# Altium footprint library SparkFun-Connectors.PCBLIB: 386 footprints (part 14 of 25)
Each footprint in its own frame and in the unit in brackets; x right, y up, seen from the top. Pads: shape width x height; smd on the part's side, far side on the other; paste and mask are expansions set on the pad; w line width, h text height; cw(c..) or ccw(c..) is an arc to the next point about the centre after c.
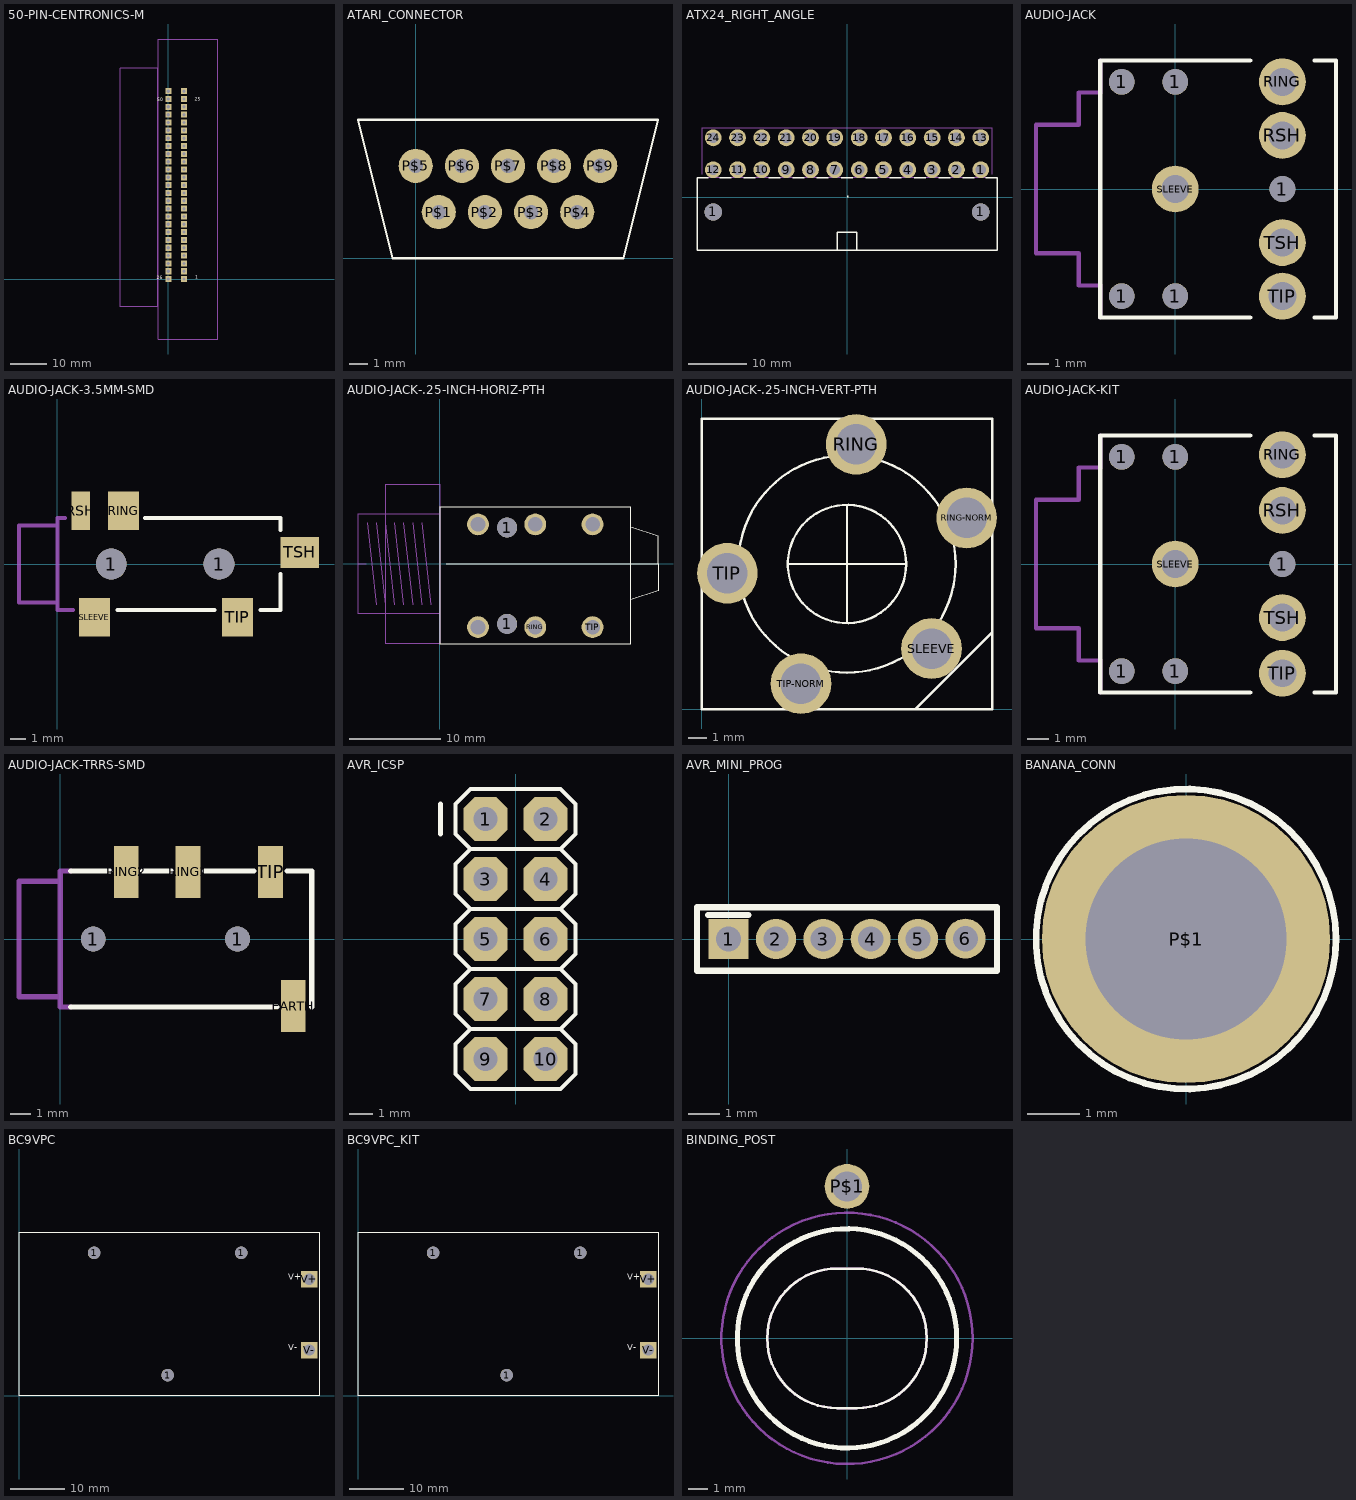
[diagram p13: the footprints below, top view; thin cyan lines are the x and y axes]

## 50-PIN-CENTRONICS-M [mil]
pads (50):
  rect 66x66 hole 35.43: P$1(170,0) P$2(170,85) P$3(170,170) P$4(170,255) P$5(170,340) P$6(170,425) P$7(170,510) P$8(170,595) P$9(170,680) P$10(170,765) P$11(170,850) P$12(170,935) P$13(170,1020) P$14(170,1105) P$15(170,1190) P$16(170,1275) P$17(170,1360) P$18(170,1445) P$19(170,1530) P$20(170,1615) P$21(170,1700) P$22(170,1785) P$23(170,1870) P$24(170,1955) P$25(170,2040) P$26(0,0) P$27(0,85) P$28(0,170) P$29(0,255) P$30(0,340) P$31(0,425) P$32(0,510) P$33(0,595) P$34(0,680) P$35(0,765) P$36(0,850) P$37(0,935) P$38(0,1020) P$39(0,1105) P$40(0,1190) P$41(0,1275) P$42(0,1360) P$43(0,1445) P$44(0,1530) P$45(0,1615) P$46(0,1700) P$47(0,1785) P$48(0,1870) P$49(0,1955) P$50(0,2040)
Top Overlay:
  text "1" at 292.87,-15 h62
  text "25" at 287.87,1920 h62
  text "26" at -127.87,-20 h62
  text "50" at -117.87,1930 h34
Mechanical 16:
  lines w5: -519.69,-300 -113.39,-300 -113.39,2286.61 -519.69,2286.61 -519.69,-300 ; -111.34,-650 -111.34,2605.91 534.33,2605.91 534.33,-650 -111.34,-650

## ATARI_CONNECTOR [mil]
pads (9):
  round 74 hole 31.5: P$1(50,100) P$2(150,100) P$3(250,100) P$4(350,100) P$5(0,200) P$6(100,200) P$7(200,200) P$8(300,200) P$9(400,200)
Top Overlay:
  lines w5: -125,300 525,300 450,0 -50,0 -125,300

## ATX24_RIGHT_ANGLE [mm]
pads (26):
  round 3 hole 3: 1(-23.1,-2.54) 1(23.1,-2.54)
  round 2.9 hole 1.8: 1(23.1,4.76) 2(18.9,4.76) 3(14.7,4.76) 4(10.5,4.76) 5(6.3,4.76) 6(2.1,4.76) 7(-2.1,4.76) 8(-6.3,4.76) 9(-10.5,4.76) 10(-14.7,4.76) 11(-18.9,4.76) 12(-23.1,4.76) 13(23.1,10.26) 14(18.9,10.26) 15(14.7,10.26) 16(10.5,10.26) 17(6.3,10.26) 18(2.1,10.26) 19(-2.1,10.26) 20(-6.3,10.26) 21(-10.5,10.26) 22(-14.7,10.26) 23(-18.9,10.26) 24(-23.1,10.26)
Top Overlay:
  region: 0,0 0.254,0 0.254,0.254 0,0.254
  lines w0.254: -24,3.4 -25.9,3.4 -25.9,-9.14 25.9,-9.14 25.9,3.4 24,3.4 ; -22,3.4 -20,3.4 ; -17.8,3.4 -15.8,3.4 ; -13.5,3.4 -11.5,3.4 ; -9.4,3.4 -7.4,3.4 ; -5.2,3.4 -3.2,3.4 ; -1.7,-9 -1.7,-6 1.7,-6 1.7,-9 ; -1,3.4 1,3.4 ; 3.2,3.4 5.2,3.4 ; 7.4,3.4 9.4,3.4 ; 11.6,3.4 13.6,3.4 ; 15.8,3.4 17.8,3.4 ; 20,3.4 22,3.4
Mechanical 16:
  lines w0.127: -25,4 -25,12 25,12 25,4
  lines w0.203: -25.9,3.4 25.9,3.4

## AUDIO-JACK [mm]
pads (10):
  round 1.2 hole 1.2: 1(-2.5,-5) 1(-2.5,5) 1(0,-5) 1(0,5) 1(5,0)
  round 2.184 hole 1.3: RING(5,5) RSH(5,2.5) SLEEVE(0,0) TIP(5,-5) TSH(5,-2.5)
Top Overlay:
  lines w0.203: 3.5,-6 -3.5,-6 -3.5,6 3.5,6 ; 6.5,-6 7.5,-6 7.5,6 6.5,6
Mechanical 16:
  lines w0.203: -3.5,-6 -3.5,-4.5 -4.5,-4.5 -4.5,-3 -6.5,-3 -6.5,3 -4.5,3 -4.5,4.5 -3.5,4.5 -3.5,6

## AUDIO-JACK-3.5MM-SMD [mm]
pads (7):
  round 2 hole 2: 1(3.5,0) 1(10.5,0)
  rect 2x2.5 smd: RING(4.3,3.45) SLEEVE(2.4,-3.45) TIP(11.7,-3.45)
  rect 1.2x2.5 smd: RSH(1.5,3.45)
  rect 2.5x2 smd: TSH(15.75,0.75)
Top Overlay:
  lines w0.254: 3.9,-3 10.2,-3 ; 5.7,3 14.5,3 14.5,2.21 ; 13.2,-3 14.5,-3 14.5,-0.635
Mechanical 16:
  lines w0.254: -0.152,2.5 -2.5,2.5 -2.5,-2.5 0,-2.5 ; 0.5,3 0,3 0,-2.5 ; 1,-3 0,-3 0,-2.5

## AUDIO-JACK-.25-INCH-HORIZ-PTH [mm]
pads (8):
  round 2.2 hole 2.2: 1(7.4,-6.6) 1(7.4,4)
  round 2.4 hole 1.6: RING(10.5,-6.95) RING-NORM(10.5,4.35) SLEEVE(4.2,-6.95) SLEEVE-NORM(4.2,4.35) TIP(16.8,-6.95) TIP-NORM(16.8,4.35)
Top Overlay:
  lines w0.127: 0.73,0.03 24,0.03 ; 21,-3.97 21,-8.77 0,-8.77 0,6.23 21,6.23 21,4.03 ; 21,-3.97 21,4.03 ; 21,-3.97 24,-2.97 24,0.03 ; 21,4.03 24,3.03 24,0.03
Mechanical 16:
  lines w0.127: -8.1,0.03 -9,0.03 ; -8,4.53 -7,-4.47 ; -7,4.53 -6,-4.47 ; -6,4.53 -5,-4.47 ; -5,4.53 -4,-4.47 ; -4,4.53 -3,-4.47 ; -3,4.53 -2,-4.47 ; -2,4.53 -1,-4.47 ; -9,0.03 -9,-5.47 0,-5.47 0,5.53 -9,5.53 -9,0.03 ; -6,-8.75 0,-8.75 0,8.75 -6,8.75 -6,-8.75

## AUDIO-JACK-.25-INCH-VERT-PTH [mil]
pads (5):
  round 129.91 hole 86.61: RING(330.71,566.93) RING-NORM(566.93,409.45) SLEEVE(491.97,130.08) TIP(55.12,291.34) TIP-NORM(212.6,55.12)
Top Overlay:
  circle w5: c311.02,311.02 r126.57
  circle w5: c311.02,311.02 r232.28
  lines w5: 185.04,311.02 437.01,311.02 ; 311.02,185.04 311.02,437.01 ; 456.69,0 0,0 0,622.05 622.05,622.05 622.05,165.35 ; 456.69,0 622.05,0 622.05,165.35 ; 456.69,0 622.05,165.35

## AUDIO-JACK-KIT [mil]
pads (10):
  round 47.24 hole 47.24: 1(-98.43,-196.85) 1(-98.43,196.85) 1(0,-196.85) 1(0,196.85) 1(196.85,0)
  round 86 hole 51.18: RING(196.85,200.79) RSH(196.85,98.43) SLEEVE(0,0) TIP(196.85,-200.79) TSH(196.85,-98.43)
Top Overlay:
  lines w8: 137.8,-236.22 -137.8,-236.22 -137.8,236.22 137.8,236.22 ; 255.91,-236.22 295.28,-236.22 295.28,236.22 255.91,236.22
Top Solder:
  circle w0: c0,0 r26
  circle w0: c196.85,200.79 r26
  circle w0: c196.85,98.43 r26
  circle w0: c196.85,-98.43 r26
  circle w0: c196.85,-200.79 r26
Bottom Solder:
  circle w0: c0,0 r48
  circle w0: c196.85,200.79 r48
  circle w0: c196.85,-200.79 r48
  circle w0: c196.85,-98.43 r48
  circle w0: c196.85,98.43 r48
Mechanical 16:
  lines w8: -137.8,-236.22 -137.8,-177.17 -177.17,-177.17 -177.17,-118.11 -255.91,-118.11 -255.91,118.11 -177.17,118.11 -177.17,177.17 -137.8,177.17 -137.8,236.22

## AUDIO-JACK-TRRS-SMD [mil]
pads (6):
  round 47.24 hole 47.24: 1(62.99,0) 1(338.58,0)
  rect 47.24x98.43 smd: EARTH(444.88,-127.95) RING1(244.09,127.95) RING2(125.98,127.95) TIP(401.57,127.95)
Top Overlay:
  lines w10: 19.69,-129.92 413.39,-129.92 ; 19.69,129.92 94.49,129.92 ; 157.48,129.92 212.6,129.92 ; 275.59,129.92 370.08,129.92 ; 433.07,129.92 480.32,129.92 480.32,-129.92
Mechanical 16:
  lines w10: 19.69,-129.92 0,-129.92 0,-110.24 ; 19.69,129.92 0,129.92 0,110.24 ; 0,-110.24 0,110.24 ; 0,-110.24 -78.74,-110.24 -78.74,110.24 0,110.24

## AVR_ICSP [mil]
pads (10):
  oct 74x74 hole 40: 1(-50,200) 2(50,200) 3(-50,100) 4(50,100) 5(-50,0) 6(50,0) 7(-50,-100) 8(50,-100) 9(-50,-200) 10(50,-200)
Top Overlay:
  rectangle: -60,-10 -40,10
  lines w6: -75,-150 -100,-125 -100,-75 -75,-50 ; -75,-150 75,-150 ; -75,-150 -100,-175 -100,-225 -75,-250 75,-250 100,-225 100,-175 75,-150 ; -75,-50 -100,-25 -100,25 -75,50 ; -75,-50 75,-50 ; -75,50 -100,75 -100,125 -75,150 ; -75,50 75,50 ; -75,150 -100,175 -100,225 -75,250 75,250 100,225 100,175 75,150 ; -75,150 75,150 ; 75,-150 100,-125 100,-75 75,-50 ; 75,-50 100,-25 100,25 75,50 ; 75,50 100,75 100,125 75,150
  lines w8: -125,175 -125,225
Mechanical 16:
  rectangle: -60,190 -40,210
  rectangle: 40,190 60,210
  rectangle: 40,90 60,110
  rectangle: -60,90 -40,110
  rectangle: 40,-10 60,10
  rectangle: 40,-210 60,-190
  rectangle: -60,-210 -40,-190
  rectangle: -60,-110 -40,-90
  rectangle: 40,-110 60,-90

## AVR_MINI_PROG [mil]
pads (6):
  rect 50x50 hole 31.5: 1(0,0)
  round 50 hole 31.5: 2(59.06,0) 3(118.11,0) 4(177.17,0) 5(236.22,0) 6(295.28,0.39)
Top Overlay:
  lines w8: -25.59,29.92 24.41,29.92 ; -39.37,-39.37 -39.37,39.37 334.65,39.37 334.65,-39.37 -39.37,-39.37

## BANANA_CONN [mil]
pads (1):
  round 215 hole 150: P$1(0,0)
Top Overlay:
  circle w5: c0,0 r111.8

## BC9VPC [mil]
pads (5):
  round 90 hole 90: 1(540,1030) 1(1070,150) 1(1600,1030)
  rect 120x120 hole 80: V+(2090,840) V-(2090,330)
Top Overlay:
  lines w5: 0,0 0,1180 2160,1180 2160,0 0,0
  text "V+" at 1940,820 h77.5
  text "V-" at 1940,310 h77.5

## BC9VPC_KIT [mil]
pads (5):
  round 90 hole 90: 1(540,1030) 1(1070,150) 1(1600,1030)
  rect 120x120 hole 80: V+(2090,840) V-(2090,330)
Top Overlay:
  lines w5: 0,0 0,1180 2160,1180 2160,0 0,0
  text "V+" at 1940,820 h77.5
  text "V-" at 1940,310 h77.5
Bottom Solder:
  rectangle: 2030,780 2150,900
  rectangle: 2030,270 2150,390

## BHNB-26M642 [mil]

## BINDING_POST [mil]
pads (1):
  round 88.59 hole 59.06: P$1(0,300)
Top Overlay:
  circle w10: c0,0 r216.54
  lines w5: -157.48,0 cw(c-19.68,0.01) -19.69,137.8 19.69,137.8 cw(c19.68,0.01) 157.48,0 cw(c19.68,-0.01) 19.69,-137.8 -19.69,-137.8 cw(c-19.68,-0.01) -157.48,0
Mechanical 1:
  lines w5: -157.48,0 cw(c-19.68,0.01) -19.69,137.8 19.69,137.8 cw(c19.68,0.01) 157.48,0 cw(c19.68,-0.01) 19.69,-137.8 -19.69,-137.8 cw(c-19.68,-0.01) -157.48,0
Mechanical 27:
  circle w5: c0,0 r216.54
Mechanical 28:
  circle w5: c0,0 r248.06